# Altium footprint library Connector_IDC.PcbLib: 182 footprints (part 3 of 12)
Each footprint in its own frame and in the unit in brackets; x right, y up, seen from the top. Pads: shape width x height; smd on the part's side, far side on the other; paste and mask are expansions set on the pad; w line width, h text height; cw(c..) or ccw(c..) is an arc to the next point about the centre after c.
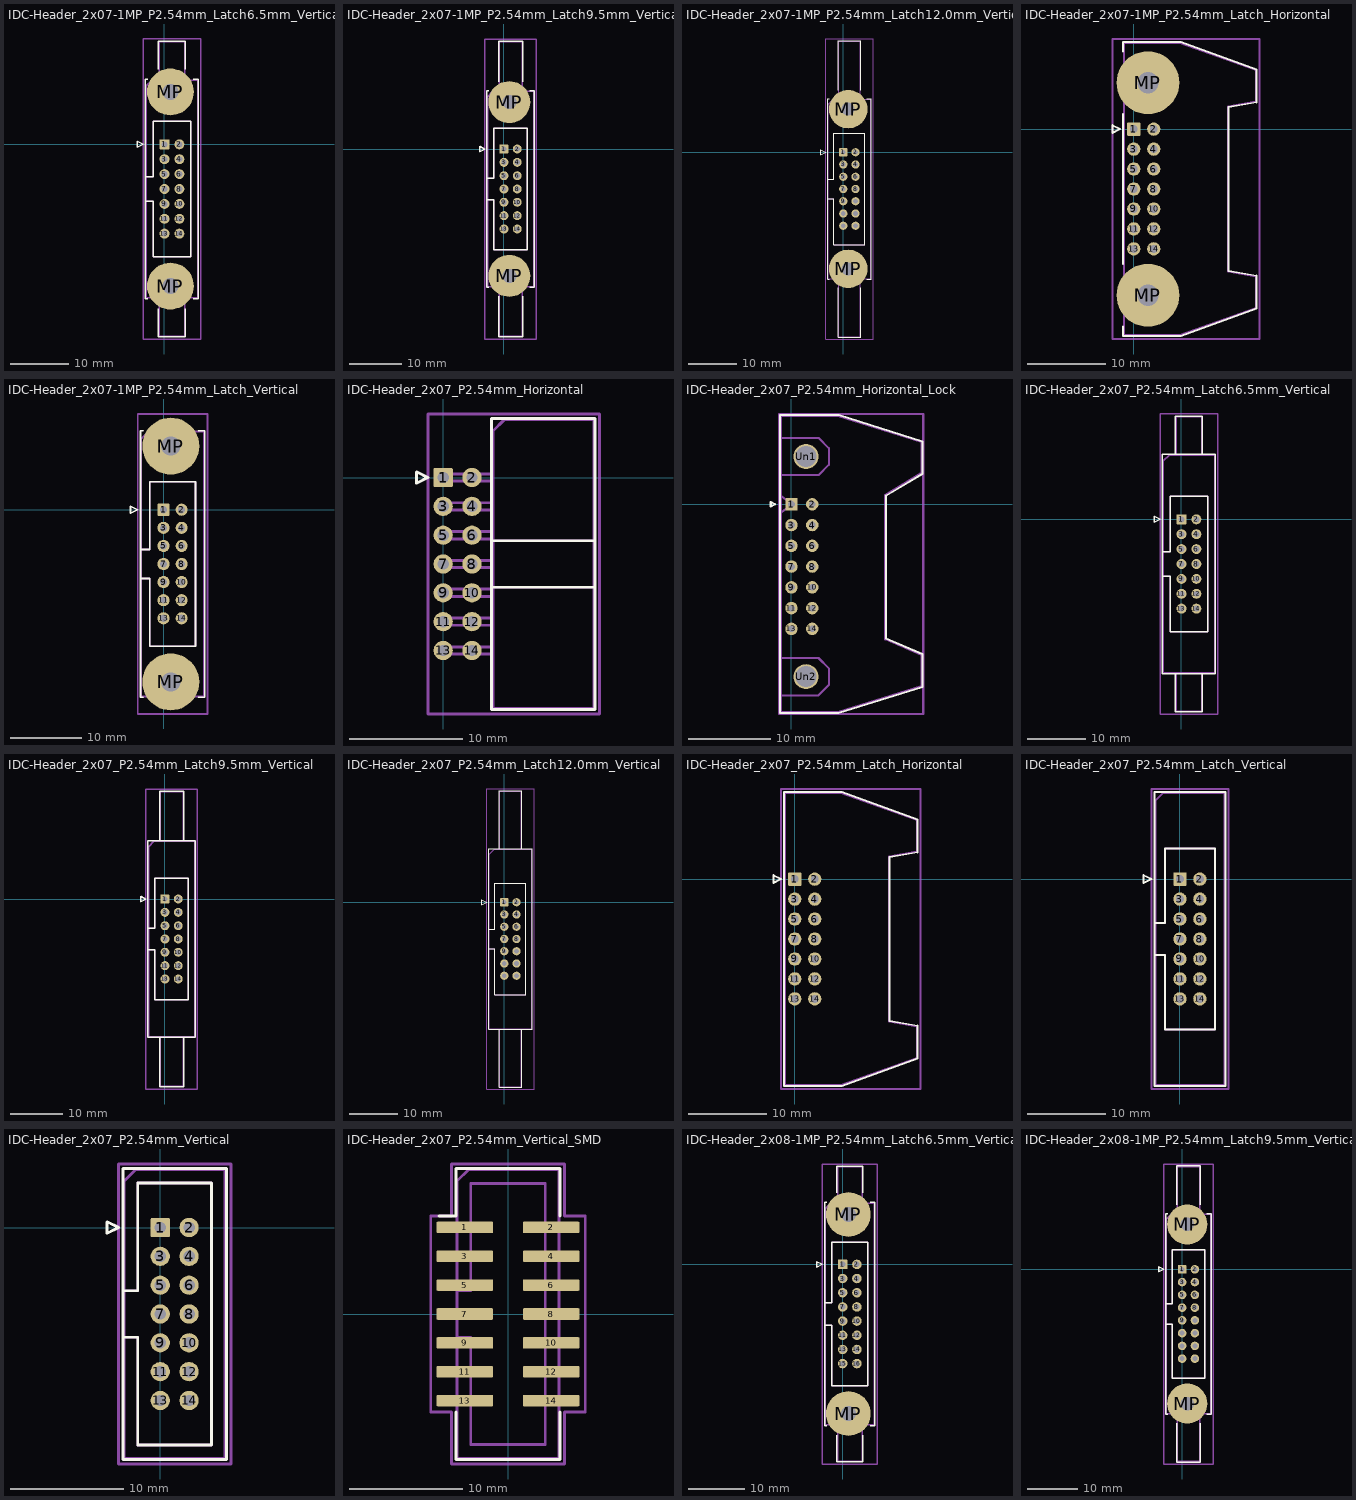
[diagram p2: the footprints below, top view; thin cyan lines are the x and y axes]

## IDC-Header_2x07-1MP_P2.54mm_Latch6.5mm_Vertical [mm]
pads (16):
  rrect15% 1.7x1.7 hole 1: 1(0,0)
  round 1.7 hole 1: 2(2.54,0) 3(0,-2.54) 4(2.54,-2.54) 5(0,-5.08) 6(2.54,-5.08) 7(0,-7.62) 8(2.54,-7.62) 9(0,-10.16) 10(2.54,-10.16) 11(0,-12.7) 12(2.54,-12.7) 13(0,-15.24) 14(2.54,-15.24)
  round 8 hole 2.69: MP(1.02,-24.18) MP(1.02,8.94)
F.SilkS:
  lines w0.254: -3.24,-9.67 -1.93,-9.67 -1.93,-19.16 4.47,-19.16 4.47,3.92 -1.93,3.92 -1.93,-5.57 -3.24,-5.57 ; -2.87,-26.32 -3.24,-26.32 -3.24,11.08 -2.87,11.08 ; -1.04,-28.07 -1.04,-32.82 3.58,-32.82 3.58,-28.07 ; -1.04,12.83 -1.04,17.58 3.58,17.58 3.58,12.83 ; 4.91,-26.32 5.78,-26.32 5.78,11.08 4.91,11.08 ; -4.63,-0.5 -3.63,0 -4.63,0.5 -4.63,-0.5
Top Assembly:
  lines w0.254: -3.13,-9.67 -1.93,-9.67 -1.93,-19.16 4.47,-19.16 4.47,3.92 -1.93,3.92 -1.93,-5.57 -3.13,-5.57 ; -0.93,-26.21 -0.93,-32.71 3.47,-32.71 3.47,-26.21 ; -0.93,10.97 -0.93,17.47 3.47,17.47 3.47,10.97 ; -3.13,-26.21 5.67,-26.21 5.67,10.97 -2.13,10.97 -3.13,9.97 -3.13,-26.21
  text "'.Designator'" at 2.11,-11.667 h1
Top Courtyard:
  lines w0.254: -3.63,-33.21 6.17,-33.21 6.17,17.97 -3.63,17.97 -3.63,-33.21
Top Designator:
  text ".Designator" at -6.848,-8.128 h1.52

## IDC-Header_2x07-1MP_P2.54mm_Latch9.5mm_Vertical [mm]
pads (16):
  rrect15% 1.7x1.7 hole 1: 1(0,0)
  round 1.7 hole 1: 2(2.54,0) 3(0,-2.54) 4(2.54,-2.54) 5(0,-5.08) 6(2.54,-5.08) 7(0,-7.62) 8(2.54,-7.62) 9(0,-10.16) 10(2.54,-10.16) 11(0,-12.7) 12(2.54,-12.7) 13(0,-15.24) 14(2.54,-15.24)
  round 8 hole 2.69: MP(1.02,-24.18) MP(1.02,8.94)
F.SilkS:
  lines w0.254: -3.24,-9.67 -1.93,-9.67 -1.93,-19.16 4.47,-19.16 4.47,3.92 -1.93,3.92 -1.93,-5.57 -3.24,-5.57 ; -2.87,-26.32 -3.24,-26.32 -3.24,11.08 -2.87,11.08 ; -1.04,-28.07 -1.04,-35.82 3.58,-35.82 3.58,-28.07 ; -1.04,12.83 -1.04,20.58 3.58,20.58 3.58,12.83 ; 4.91,-26.32 5.78,-26.32 5.78,11.08 4.91,11.08 ; -4.63,-0.5 -3.63,0 -4.63,0.5 -4.63,-0.5
Top Assembly:
  lines w0.254: -3.13,-9.67 -1.93,-9.67 -1.93,-19.16 4.47,-19.16 4.47,3.92 -1.93,3.92 -1.93,-5.57 -3.13,-5.57 ; -0.93,-26.21 -0.93,-35.71 3.47,-35.71 3.47,-26.21 ; -0.93,10.97 -0.93,20.47 3.47,20.47 3.47,10.97 ; -3.13,-26.21 5.67,-26.21 5.67,10.97 -2.13,10.97 -3.13,9.97 -3.13,-26.21
  text "'.Designator'" at 2.11,-11.667 h1
Top Courtyard:
  lines w0.254: -3.63,-36.21 6.17,-36.21 6.17,20.97 -3.63,20.97 -3.63,-36.21
Top Designator:
  text ".Designator" at -6.848,-8.128 h1.52

## IDC-Header_2x07-1MP_P2.54mm_Latch12.0mm_Vertical [mm]
pads (16):
  rrect15% 1.7x1.7 hole 1: 1(0,0)
  round 1.7 hole 1: 2(2.54,0) 3(0,-2.54) 4(2.54,-2.54) 5(0,-5.08) 6(2.54,-5.08) 7(0,-7.62) 8(2.54,-7.62) 9(0,-10.16) 10(2.54,-10.16) 11(0,-12.7) 12(2.54,-12.7) 13(0,-15.24) 14(2.54,-15.24)
  round 8 hole 2.69: MP(1.02,-24.18) MP(1.02,8.94)
F.SilkS:
  lines w0.254: -3.24,-9.67 -1.93,-9.67 -1.93,-19.16 4.47,-19.16 4.47,3.92 -1.93,3.92 -1.93,-5.57 -3.24,-5.57 ; -2.87,-26.32 -3.24,-26.32 -3.24,11.08 -2.87,11.08 ; -1.04,-28.07 -1.04,-38.32 3.58,-38.32 3.58,-28.07 ; -1.04,12.83 -1.04,23.08 3.58,23.08 3.58,12.83 ; 4.91,-26.32 5.78,-26.32 5.78,11.08 4.91,11.08 ; -4.63,-0.5 -3.63,0 -4.63,0.5 -4.63,-0.5
Top Assembly:
  lines w0.254: -3.13,-9.67 -1.93,-9.67 -1.93,-19.16 4.47,-19.16 4.47,3.92 -1.93,3.92 -1.93,-5.57 -3.13,-5.57 ; -0.93,-26.21 -0.93,-38.21 3.47,-38.21 3.47,-26.21 ; -0.93,10.97 -0.93,22.97 3.47,22.97 3.47,10.97 ; -3.13,-26.21 5.67,-26.21 5.67,10.97 -2.13,10.97 -3.13,9.97 -3.13,-26.21
  text "'.Designator'" at 2.11,-11.667 h1
Top Courtyard:
  lines w0.254: -3.63,-38.71 6.17,-38.71 6.17,23.47 -3.63,23.47 -3.63,-38.71
Top Designator:
  text ".Designator" at -6.848,-8.128 h1.52

## IDC-Header_2x07-1MP_P2.54mm_Latch_Horizontal [mm]
pads (16):
  rrect15% 1.7x1.7 hole 1: 1(0,0)
  round 1.7 hole 1: 2(2.54,0) 3(0,-2.54) 4(2.54,-2.54) 5(0,-5.08) 6(2.54,-5.08) 7(0,-7.62) 8(2.54,-7.62) 9(0,-10.16) 10(2.54,-10.16) 11(0,-12.7) 12(2.54,-12.7) 13(0,-15.24) 14(2.54,-15.24)
  round 8 hole 2.69: MP(1.8,-21.145) MP(1.8,5.905)
F.SilkS:
  lines w0.254: -1.35,-25.145 -1.35,-26.32 5.98,-26.32 15.64,-22.85 15.64,-18.66 12.08,-18.03 12.08,2.79 15.64,3.42 15.64,7.61 5.98,11.08 -1.35,11.08 -1.35,9.905 ; -1.35,-17.145 -1.35,1.905 ; -2.74,-0.5 -1.74,0 -2.74,0.5 -2.74,-0.5
Top Assembly:
  lines w0.254: -1.24,-26.21 5.87,-26.21 15.53,-22.74 15.53,-18.77 11.97,-18.14 11.97,2.9 15.53,3.53 15.53,7.5 5.87,10.97 -1.24,10.97 -1.24,-26.21
  text "'.Designator'" at 7.985,-11.667 h1
Top Courtyard:
  lines w0.254: -2.7,-26.71 16.03,-26.71 16.03,11.47 -2.7,11.47 -2.7,-26.71
Top Designator:
  text ".Designator" at -0.973,-8.128 h1.52

## IDC-Header_2x07-1MP_P2.54mm_Latch_Vertical [mm]
pads (16):
  rrect15% 1.7x1.7 hole 1: 1(0,0)
  round 1.7 hole 1: 2(2.54,0) 3(0,-2.54) 4(2.54,-2.54) 5(0,-5.08) 6(2.54,-5.08) 7(0,-7.62) 8(2.54,-7.62) 9(0,-10.16) 10(2.54,-10.16) 11(0,-12.7) 12(2.54,-12.7) 13(0,-15.24) 14(2.54,-15.24)
  round 8 hole 2.69: MP(1.02,-24.18) MP(1.02,8.94)
F.SilkS:
  lines w0.254: -3.24,-9.67 -1.93,-9.67 -1.93,-19.16 4.47,-19.16 4.47,3.92 -1.93,3.92 -1.93,-5.57 -3.24,-5.57 ; -2.87,-26.32 -3.24,-26.32 -3.24,11.08 -2.87,11.08 ; 4.91,-26.32 5.78,-26.32 5.78,11.08 4.91,11.08 ; -4.63,-0.5 -3.63,0 -4.63,0.5 -4.63,-0.5
Top Assembly:
  lines w0.254: -3.13,-9.67 -1.93,-9.67 -1.93,-19.16 4.47,-19.16 4.47,3.92 -1.93,3.92 -1.93,-5.57 -3.13,-5.57 ; -3.13,-26.21 5.67,-26.21 5.67,10.97 -2.13,10.97 -3.13,9.97 -3.13,-26.21
  text "'.Designator'" at 2.11,-11.667 h1
Top Courtyard:
  lines w0.254: -3.63,-28.68 6.17,-28.68 6.17,13.44 -3.63,13.44 -3.63,-28.68
Top Designator:
  text ".Designator" at -6.848,-8.128 h1.52

## IDC-Header_2x07_P2.54mm_Horizontal [mm]
pads (14):
  rrect15% 1.7x1.7 hole 1: 1(0,0)
  round 1.7 hole 1: 2(2.54,0) 3(0,-2.54) 4(2.54,-2.54) 5(0,-5.08) 6(2.54,-5.08) 7(0,-7.62) 8(2.54,-7.62) 9(0,-10.16) 10(2.54,-10.16) 11(0,-12.7) 12(2.54,-12.7) 13(0,-15.24) 14(2.54,-15.24)
F.SilkS:
  lines w0.254: 4.27,-9.67 13.39,-9.67 ; 4.27,-5.57 13.39,-5.57 ; -2.35,-0.5 -1.35,0 -2.35,0.5 -2.35,-0.5 ; 4.27,-20.45 13.39,-20.45 13.39,5.21 4.27,5.21 4.27,-20.45
Top Assembly:
  lines w0.254: 4.38,-15.56 -0.32,-15.56 -0.32,-14.92 4.38,-14.92 ; 4.38,-13.02 -0.32,-13.02 -0.32,-12.38 4.38,-12.38 ; 4.38,-10.48 -0.32,-10.48 -0.32,-9.84 4.38,-9.84 ; 4.38,-9.67 13.28,-9.67 ; 4.38,-7.94 -0.32,-7.94 -0.32,-7.3 4.38,-7.3 ; 4.38,-5.57 13.28,-5.57 ; 4.38,-5.4 -0.32,-5.4 -0.32,-4.76 4.38,-4.76 ; 4.38,-2.86 -0.32,-2.86 -0.32,-2.22 4.38,-2.22 ; 4.38,-0.32 -0.32,-0.32 -0.32,0.32 4.38,0.32 ; 4.38,-20.34 13.28,-20.34 13.28,5.1 5.38,5.1 4.38,4.1 4.38,-20.34
  text "'.Designator'" at 9.67,-11.667 h1
Top Courtyard:
  lines w0.254: -1.35,-20.84 13.78,-20.84 13.78,5.6 -1.35,5.6 -1.35,-20.84
Top Designator:
  text ".Designator" at -1.903,-8.128 h1.52

## IDC-Header_2x07_P2.54mm_Horizontal_Lock [mm]
pads (16):
  rect 1.52x1.52 hole 0.81: 1(0,0)
  round 1.52 hole 0.81: 2(2.54,0) 3(0,-2.54) 4(2.54,-2.54) 5(0,-5.08) 6(2.54,-5.08) 7(0,-7.62) 8(2.54,-7.62) 9(0,-10.16) 10(2.54,-10.16) 11(0,-12.7) 12(2.54,-12.7) 13(0,-15.24) 14(2.54,-15.24)
  round 3.05 hole 2.54: Un1(1.78,5.84) Un2(1.78,-21.08)
F.SilkS:
  lines w0.254: -1.4,-25.55 5.75,-25.55 16,-22.35 16,-18.3 11.55,-16.4 11.55,1.05 16,3.7 16,7.7 5.8,10.9 -1.4,10.9 ; -1.39,-25.52 -1.39,10.91 ; -2.54,-0.254 -2.032,0 -2.54,0.254 -2.54,-0.254
Top Assembly:
  lines w0.254: -1.27,-23.37 3.3,-23.37 4.57,-22.1 4.57,-20.07 3.3,-18.8 -1.27,-18.8 ; -1.27,3.56 3.3,3.56 4.57,4.83 4.57,6.86 3.3,8.13 -1.27,8.13 ; -1.268,-1.01 0,0 -1.268,1.02 ; -1.27,-25.4 5.71,-25.4 15.88,-22.23 15.88,-18.41 11.43,-16.51 11.43,1.14 15.88,3.81 15.88,7.62 5.71,10.79 -1.27,10.79 -1.27,-25.4
  text "'.Designator'" at 11,-12.302 h1
Top Courtyard:
  lines w0.254: -1.52,-25.65 16.12,-25.65 16.12,11.04 -1.52,11.04 -1.52,-25.65
Top Designator:
  text ".Designator" at -0.828,-7.813 h1.52

## IDC-Header_2x07_P2.54mm_Latch6.5mm_Vertical [mm]
pads (14):
  rrect15% 1.7x1.7 hole 1: 1(0,0)
  round 1.7 hole 1: 2(2.54,0) 3(0,-2.54) 4(2.54,-2.54) 5(0,-5.08) 6(2.54,-5.08) 7(0,-7.62) 8(2.54,-7.62) 9(0,-10.16) 10(2.54,-10.16) 11(0,-12.7) 12(2.54,-12.7) 13(0,-15.24) 14(2.54,-15.24)
F.SilkS:
  lines w0.254: -3.24,-9.67 -1.93,-9.67 -1.93,-19.16 4.47,-19.16 4.47,3.92 -1.93,3.92 -1.93,-5.57 -3.24,-5.57 ; -1.04,-26.32 -1.04,-32.82 3.58,-32.82 3.58,-26.32 ; -1.04,11.08 -1.04,17.58 3.58,17.58 3.58,11.08 ; -4.63,-0.5 -3.63,0 -4.63,0.5 -4.63,-0.5 ; -3.24,-26.32 5.78,-26.32 5.78,11.08 -3.24,11.08 -3.24,-26.32
Top Assembly:
  lines w0.254: -3.13,-9.67 -1.93,-9.67 -1.93,-19.16 4.47,-19.16 4.47,3.92 -1.93,3.92 -1.93,-5.57 -3.13,-5.57 ; -0.93,-26.21 -0.93,-32.71 3.47,-32.71 3.47,-26.21 ; -0.93,10.97 -0.93,17.47 3.47,17.47 3.47,10.97 ; -3.13,-26.21 5.67,-26.21 5.67,10.97 -2.13,10.97 -3.13,9.97 -3.13,-26.21
  text "'.Designator'" at 2.11,-11.667 h1
Top Courtyard:
  lines w0.254: -3.63,-33.21 6.17,-33.21 6.17,17.97 -3.63,17.97 -3.63,-33.21
Top Designator:
  text ".Designator" at -6.848,-8.128 h1.52

## IDC-Header_2x07_P2.54mm_Latch9.5mm_Vertical [mm]
pads (14):
  rrect15% 1.7x1.7 hole 1: 1(0,0)
  round 1.7 hole 1: 2(2.54,0) 3(0,-2.54) 4(2.54,-2.54) 5(0,-5.08) 6(2.54,-5.08) 7(0,-7.62) 8(2.54,-7.62) 9(0,-10.16) 10(2.54,-10.16) 11(0,-12.7) 12(2.54,-12.7) 13(0,-15.24) 14(2.54,-15.24)
F.SilkS:
  lines w0.254: -3.24,-9.67 -1.93,-9.67 -1.93,-19.16 4.47,-19.16 4.47,3.92 -1.93,3.92 -1.93,-5.57 -3.24,-5.57 ; -1.04,-26.32 -1.04,-35.82 3.58,-35.82 3.58,-26.32 ; -1.04,11.08 -1.04,20.58 3.58,20.58 3.58,11.08 ; -4.63,-0.5 -3.63,0 -4.63,0.5 -4.63,-0.5 ; -3.24,-26.32 5.78,-26.32 5.78,11.08 -3.24,11.08 -3.24,-26.32
Top Assembly:
  lines w0.254: -3.13,-9.67 -1.93,-9.67 -1.93,-19.16 4.47,-19.16 4.47,3.92 -1.93,3.92 -1.93,-5.57 -3.13,-5.57 ; -0.93,-26.21 -0.93,-35.71 3.47,-35.71 3.47,-26.21 ; -0.93,10.97 -0.93,20.47 3.47,20.47 3.47,10.97 ; -3.13,-26.21 5.67,-26.21 5.67,10.97 -2.13,10.97 -3.13,9.97 -3.13,-26.21
  text "'.Designator'" at 2.11,-11.667 h1
Top Courtyard:
  lines w0.254: -3.63,-36.21 6.17,-36.21 6.17,20.97 -3.63,20.97 -3.63,-36.21
Top Designator:
  text ".Designator" at -6.848,-8.128 h1.52

## IDC-Header_2x07_P2.54mm_Latch12.0mm_Vertical [mm]
pads (14):
  rrect15% 1.7x1.7 hole 1: 1(0,0)
  round 1.7 hole 1: 2(2.54,0) 3(0,-2.54) 4(2.54,-2.54) 5(0,-5.08) 6(2.54,-5.08) 7(0,-7.62) 8(2.54,-7.62) 9(0,-10.16) 10(2.54,-10.16) 11(0,-12.7) 12(2.54,-12.7) 13(0,-15.24) 14(2.54,-15.24)
F.SilkS:
  lines w0.254: -3.24,-9.67 -1.93,-9.67 -1.93,-19.16 4.47,-19.16 4.47,3.92 -1.93,3.92 -1.93,-5.57 -3.24,-5.57 ; -1.04,-26.32 -1.04,-38.32 3.58,-38.32 3.58,-26.32 ; -1.04,11.08 -1.04,23.08 3.58,23.08 3.58,11.08 ; -4.63,-0.5 -3.63,0 -4.63,0.5 -4.63,-0.5 ; -3.24,-26.32 5.78,-26.32 5.78,11.08 -3.24,11.08 -3.24,-26.32
Top Assembly:
  lines w0.254: -3.13,-9.67 -1.93,-9.67 -1.93,-19.16 4.47,-19.16 4.47,3.92 -1.93,3.92 -1.93,-5.57 -3.13,-5.57 ; -0.93,-26.21 -0.93,-38.21 3.47,-38.21 3.47,-26.21 ; -0.93,10.97 -0.93,22.97 3.47,22.97 3.47,10.97 ; -3.13,-26.21 5.67,-26.21 5.67,10.97 -2.13,10.97 -3.13,9.97 -3.13,-26.21
  text "'.Designator'" at 2.11,-11.667 h1
Top Courtyard:
  lines w0.254: -3.63,-38.71 6.17,-38.71 6.17,23.47 -3.63,23.47 -3.63,-38.71
Top Designator:
  text ".Designator" at -6.848,-8.128 h1.52

## IDC-Header_2x07_P2.54mm_Latch_Horizontal [mm]
pads (14):
  rrect15% 1.7x1.7 hole 1: 1(0,0)
  round 1.7 hole 1: 2(2.54,0) 3(0,-2.54) 4(2.54,-2.54) 5(0,-5.08) 6(2.54,-5.08) 7(0,-7.62) 8(2.54,-7.62) 9(0,-10.16) 10(2.54,-10.16) 11(0,-12.7) 12(2.54,-12.7) 13(0,-15.24) 14(2.54,-15.24)
F.SilkS:
  lines w0.254: -2.74,-0.5 -1.74,0 -2.74,0.5 -2.74,-0.5 ; -1.35,-26.32 5.98,-26.32 15.64,-22.85 15.64,-18.66 12.08,-18.03 12.08,2.79 15.64,3.42 15.64,7.61 5.98,11.08 -1.35,11.08 -1.35,-26.32
Top Assembly:
  lines w0.254: -1.24,-26.21 5.87,-26.21 15.53,-22.74 15.53,-18.77 11.97,-18.14 11.97,2.9 15.53,3.53 15.53,7.5 5.87,10.97 -1.24,10.97 -1.24,-26.21
  text "'.Designator'" at 7.985,-11.667 h1
Top Courtyard:
  lines w0.254: -1.74,-26.71 16.03,-26.71 16.03,11.47 -1.74,11.47 -1.74,-26.71
Top Designator:
  text ".Designator" at -0.973,-8.128 h1.52

## IDC-Header_2x07_P2.54mm_Latch_Vertical [mm]
pads (14):
  rrect15% 1.7x1.7 hole 1: 1(0,0)
  round 1.7 hole 1: 2(2.54,0) 3(0,-2.54) 4(2.54,-2.54) 5(0,-5.08) 6(2.54,-5.08) 7(0,-7.62) 8(2.54,-7.62) 9(0,-10.16) 10(2.54,-10.16) 11(0,-12.7) 12(2.54,-12.7) 13(0,-15.24) 14(2.54,-15.24)
F.SilkS:
  lines w0.254: -3.24,-9.67 -1.93,-9.67 -1.93,-19.16 4.47,-19.16 4.47,3.92 -1.93,3.92 -1.93,-5.57 -3.24,-5.57 ; -4.63,-0.5 -3.63,0 -4.63,0.5 -4.63,-0.5 ; -3.24,-26.32 5.78,-26.32 5.78,11.08 -3.24,11.08 -3.24,-26.32
Top Assembly:
  lines w0.254: -3.13,-9.67 -1.93,-9.67 -1.93,-19.16 4.47,-19.16 4.47,3.92 -1.93,3.92 -1.93,-5.57 -3.13,-5.57 ; -3.13,-26.21 5.67,-26.21 5.67,10.97 -2.13,10.97 -3.13,9.97 -3.13,-26.21
  text "'.Designator'" at 2.11,-11.667 h1
Top Courtyard:
  lines w0.254: -3.63,-26.71 6.17,-26.71 6.17,11.47 -3.63,11.47 -3.63,-26.71
Top Designator:
  text ".Designator" at -6.848,-8.128 h1.52

## IDC-Header_2x07_P2.54mm_Vertical [mm]
pads (14):
  rrect15% 1.7x1.7 hole 1: 1(0,0)
  round 1.7 hole 1: 2(2.54,0) 3(0,-2.54) 4(2.54,-2.54) 5(0,-5.08) 6(2.54,-5.08) 7(0,-7.62) 8(2.54,-7.62) 9(0,-10.16) 10(2.54,-10.16) 11(0,-12.7) 12(2.54,-12.7) 13(0,-15.24) 14(2.54,-15.24)
F.SilkS:
  lines w0.254: -3.29,-9.67 -1.98,-9.67 -1.98,-19.15 4.52,-19.15 4.52,3.91 -1.98,3.91 -1.98,-5.57 -3.29,-5.57 ; -4.68,-0.5 -3.68,0 -4.68,0.5 -4.68,-0.5 ; -3.29,-20.45 5.83,-20.45 5.83,5.21 -3.29,5.21 -3.29,-20.45
Top Assembly:
  lines w0.254: -3.18,-9.67 -1.98,-9.67 -1.98,-19.15 4.52,-19.15 4.52,3.91 -1.98,3.91 -1.98,-5.57 -3.18,-5.57 ; -3.18,-20.34 5.72,-20.34 5.72,5.1 -2.18,5.1 -3.18,4.1 -3.18,-20.34
  text "'.Designator'" at 2.11,-11.667 h1
Top Courtyard:
  lines w0.254: -3.68,-20.84 6.22,-20.84 6.22,5.6 -3.68,5.6 -3.68,-20.84
Top Designator:
  text ".Designator" at -6.848,-8.128 h1.52

## IDC-Header_2x07_P2.54mm_Vertical_SMD [mm]
pads (14):
  rrect25% 5x1.02 smd: 1(-3.8,7.62) 2(3.8,7.62) 3(-3.8,5.08) 4(3.8,5.08) 5(-3.8,2.54) 6(3.8,2.54) 7(-3.8,0) 8(3.8,0) 9(-3.8,-2.54) 10(3.8,-2.54) 11(-3.8,-5.08) 12(3.8,-5.08) 13(-3.8,-7.62) 14(3.8,-7.62)
F.SilkS:
  lines w0.254: -6.085,8.63 -4.585,8.63 -4.585,12.81 4.585,12.81 4.585,8.63 ; -4.585,-8.63 -4.585,-12.81 4.585,-12.81 4.585,-8.63
Top Assembly:
  lines w0.254: -4.475,-2.05 -3.275,-2.05 -3.275,-11.5 3.275,-11.5 3.275,11.5 -3.275,11.5 -3.275,2.05 -4.475,2.05 ; -4.475,-12.7 4.475,-12.7 4.475,12.7 -3.475,12.7 -4.475,11.7 -4.475,-12.7
  text "'.Designator'" at 0.84,-4.047 h1
Top Courtyard:
  lines w0.254: -6.8,-8.64 -4.98,-8.64 -4.98,-13.2 4.98,-13.2 4.98,-8.64 6.8,-8.64 6.8,8.64 4.98,8.64 4.98,13.2 -4.98,13.2 -4.98,8.64 -6.8,8.64 -6.8,-8.64
Top Designator:
  text ".Designator" at -7.618,-0.508 h1.52

## IDC-Header_2x08-1MP_P2.54mm_Latch6.5mm_Vertical [mm]
pads (18):
  rrect15% 1.7x1.7 hole 1: 1(0,0)
  round 1.7 hole 1: 2(2.54,0) 3(0,-2.54) 4(2.54,-2.54) 5(0,-5.08) 6(2.54,-5.08) 7(0,-7.62) 8(2.54,-7.62) 9(0,-10.16) 10(2.54,-10.16) 11(0,-12.7) 12(2.54,-12.7) 13(0,-15.24) 14(2.54,-15.24) 15(0,-17.78) 16(2.54,-17.78)
  round 8 hole 2.69: MP(1.02,-26.72) MP(1.02,8.94)
F.SilkS:
  lines w0.254: -3.24,-10.94 -1.93,-10.94 -1.93,-21.7 4.47,-21.7 4.47,3.92 -1.93,3.92 -1.93,-6.84 -3.24,-6.84 ; -2.87,-28.86 -3.24,-28.86 -3.24,11.08 -2.87,11.08 ; -1.04,-30.61 -1.04,-35.36 3.58,-35.36 3.58,-30.61 ; -1.04,12.83 -1.04,17.58 3.58,17.58 3.58,12.83 ; 4.91,-28.86 5.78,-28.86 5.78,11.08 4.91,11.08 ; -4.63,-0.5 -3.63,0 -4.63,0.5 -4.63,-0.5
Top Assembly:
  lines w0.254: -3.13,-10.94 -1.93,-10.94 -1.93,-21.7 4.47,-21.7 4.47,3.92 -1.93,3.92 -1.93,-6.84 -3.13,-6.84 ; -0.93,-28.75 -0.93,-35.25 3.47,-35.25 3.47,-28.75 ; -0.93,10.97 -0.93,17.47 3.47,17.47 3.47,10.97 ; -3.13,-28.75 5.67,-28.75 5.67,10.97 -2.13,10.97 -3.13,9.97 -3.13,-28.75
  text "'.Designator'" at 2.11,-12.937 h1
Top Courtyard:
  lines w0.254: -3.63,-35.75 6.17,-35.75 6.17,17.97 -3.63,17.97 -3.63,-35.75
Top Designator:
  text ".Designator" at -6.848,-9.398 h1.52

## IDC-Header_2x08-1MP_P2.54mm_Latch9.5mm_Vertical [mm]
pads (18):
  rrect15% 1.7x1.7 hole 1: 1(0,0)
  round 1.7 hole 1: 2(2.54,0) 3(0,-2.54) 4(2.54,-2.54) 5(0,-5.08) 6(2.54,-5.08) 7(0,-7.62) 8(2.54,-7.62) 9(0,-10.16) 10(2.54,-10.16) 11(0,-12.7) 12(2.54,-12.7) 13(0,-15.24) 14(2.54,-15.24) 15(0,-17.78) 16(2.54,-17.78)
  round 8 hole 2.69: MP(1.02,-26.72) MP(1.02,8.94)
F.SilkS:
  lines w0.254: -3.24,-10.94 -1.93,-10.94 -1.93,-21.7 4.47,-21.7 4.47,3.92 -1.93,3.92 -1.93,-6.84 -3.24,-6.84 ; -2.87,-28.86 -3.24,-28.86 -3.24,11.08 -2.87,11.08 ; -1.04,-30.61 -1.04,-38.36 3.58,-38.36 3.58,-30.61 ; -1.04,12.83 -1.04,20.58 3.58,20.58 3.58,12.83 ; 4.91,-28.86 5.78,-28.86 5.78,11.08 4.91,11.08 ; -4.63,-0.5 -3.63,0 -4.63,0.5 -4.63,-0.5
Top Assembly:
  lines w0.254: -3.13,-10.94 -1.93,-10.94 -1.93,-21.7 4.47,-21.7 4.47,3.92 -1.93,3.92 -1.93,-6.84 -3.13,-6.84 ; -0.93,-28.75 -0.93,-38.25 3.47,-38.25 3.47,-28.75 ; -0.93,10.97 -0.93,20.47 3.47,20.47 3.47,10.97 ; -3.13,-28.75 5.67,-28.75 5.67,10.97 -2.13,10.97 -3.13,9.97 -3.13,-28.75
  text "'.Designator'" at 2.11,-12.937 h1
Top Courtyard:
  lines w0.254: -3.63,-38.75 6.17,-38.75 6.17,20.97 -3.63,20.97 -3.63,-38.75
Top Designator:
  text ".Designator" at -6.848,-9.398 h1.52